# Altium footprint library SOT-23AW.PcbLib: 1 footprints
Each footprint in its own frame and in the unit in brackets; x right, y up, seen from the top. Pads: shape width x height; smd on the part's side, far side on the other; paste and mask are expansions set on the pad; w line width, h text height; cw(c..) or ccw(c..) is an arc to the next point about the centre after c.
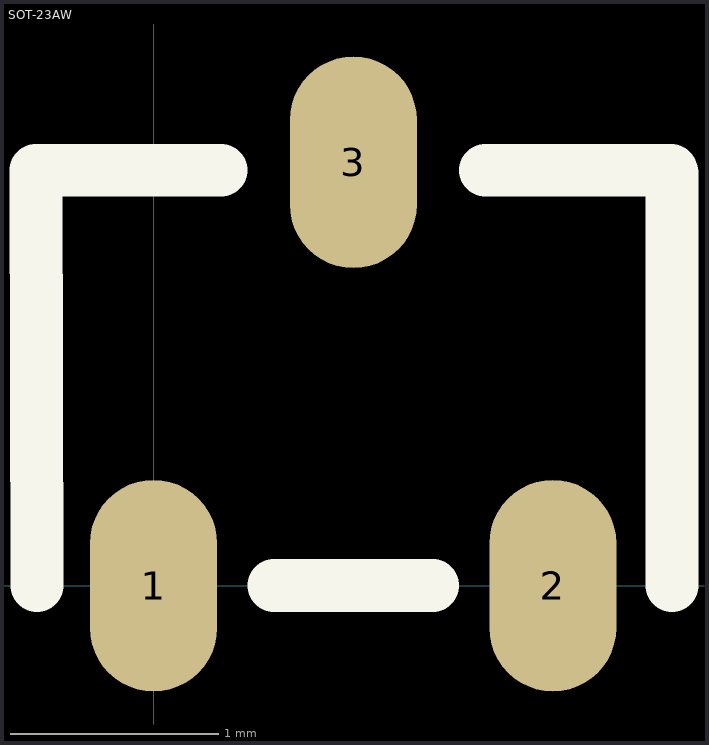
[diagram p0: the footprint, top view; thin cyan lines are the x and y axes]

## SOT-23AW [mil]
height 50
pads (3):
  oval 24x40 smd: 1(0,0) 2(75.44,0) 3(37.75,80)
TopOverlay:
  lines w10: -22,0 -22.25,78.5 12.75,78.5 ; 22.75,0 52.75,0 ; 62.75,78.5 97.75,78.5 ; 98,0 98,78